# EAGLE library part VL805 (library VIA Labs)
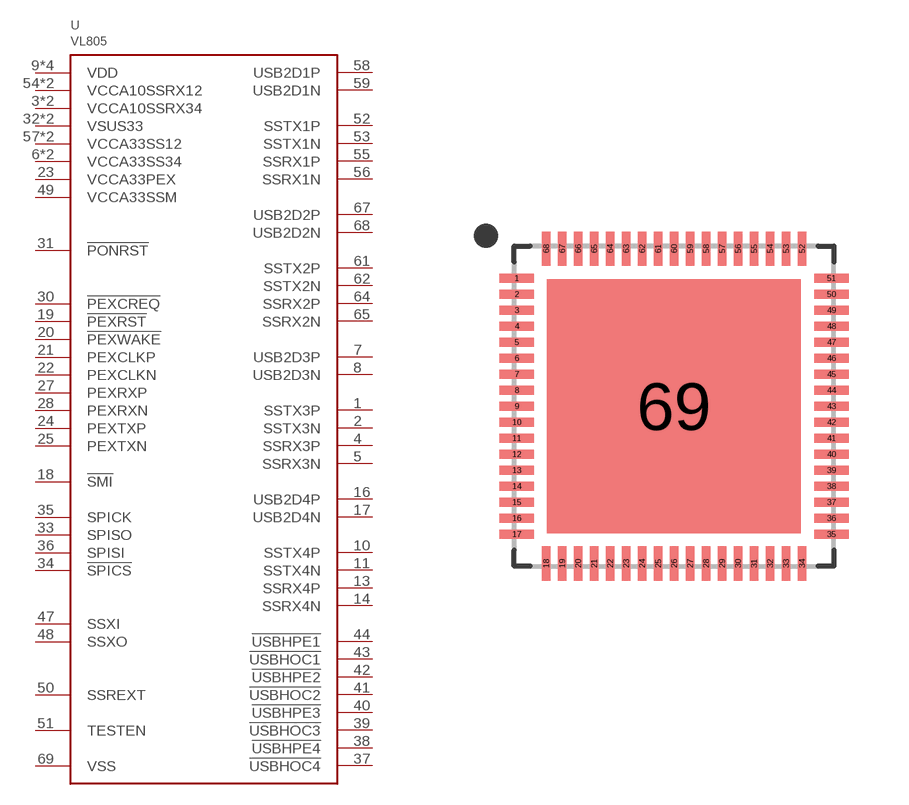
[diagram p0: symbol with the pads of QFN68; footprint QFN68]

Designator prefix U

## VL805  [QFN68]
1  SSTX3P
2  SSTX3N
3  VCCA10SSRX34  pwr
4  SSRX3P
5  SSRX3N
6  VCCA33SS34  pwr
7  USB2D3P
8  USB2D3N
9  VDD  pwr
10  SSTX4P
11  SSTX4N
12  VCCA10SSRX34  pwr
13  SSRX4P
14  SSRX4N
15  VCCA33SS34  pwr
16  USB2D4P
17  USB2D4N
18  !SMI
19  !PEXRST
20  !PEXWAKE
21  PEXCLKP
22  PEXCLKN
23  VCCA33PEX  pwr
24  PEXTXP
25  PEXTXN
27  PEXRXP
28  PEXRXN
29  VDD  pwr
30  !PEXCREQ
31  !PONRST
32  VSUS33  pwr
33  SPISO
34  !SPICS
35  SPICK
36  SPISI
37  !USBHOC4
38  !USBHPE4
39  !USBHOC3
40  !USBHPE3
41  !USBHOC2
42  !USBHPE2
43  !USBHOC1
44  !USBHPE1
45  VDD  pwr
46  VSUS33  pwr
47  SSXI
48  SSXO
49  VCCA33SSM  pwr
50  SSREXT
51  TESTEN
52  SSTX1P
53  SSTX1N
54  VCCA10SSRX12  pwr
55  SSRX1P
56  SSRX1N
57  VCCA33SS12  pwr
58  USB2D1P
59  USB2D1N
60  VDD  pwr
61  SSTX2P
62  SSTX2N
63  VCCA10SSRX12  pwr
64  SSRX2P
65  SSRX2N
66  VCCA33SS12  pwr
67  USB2D2P
68  USB2D2N
69  VSS  pwr

## Footprint QFN68 (pad centres in mm)
smd 0.86 x 0.22: 1 -3.935,3.2; 2 -3.935,2.8; 3 -3.935,2.4; 4 -3.935,2; 5 -3.935,1.6; 6 -3.935,1.2; 7 -3.935,0.8; 8 -3.935,0.4; 9 -3.935,0; 10 -3.935,-0.4; 11 -3.935,-0.8; 12 -3.935,-1.2; 13 -3.935,-1.6; 14 -3.935,-2; 15 -3.935,-2.4; 16 -3.935,-2.8; 17 -3.935,-3.2; 35 3.935,-3.2; 36 3.935,-2.8; 37 3.935,-2.4; 38 3.935,-2; 39 3.935,-1.6; 40 3.935,-1.2; 41 3.935,-0.8; 42 3.935,-0.4; 43 3.935,0; 44 3.935,0.4; 45 3.935,0.8; 46 3.935,1.2; 47 3.935,1.6; 48 3.935,2; 49 3.935,2.4; 50 3.935,2.8; 51 3.935,3.2
smd 0.22 x 0.86: 18 -3.2,-3.935; 19 -2.8,-3.935; 20 -2.4,-3.935; 21 -2,-3.935; 22 -1.6,-3.935; 23 -1.2,-3.935; 24 -0.8,-3.935; 25 -0.4,-3.935; 26 0,-3.935; 27 0.4,-3.935; 28 0.8,-3.935; 29 1.2,-3.935; 30 1.6,-3.935; 31 2,-3.935; 32 2.4,-3.935; 33 2.8,-3.935; 34 3.2,-3.935; 52 3.2,3.935; 53 2.8,3.935; 54 2.4,3.935; 55 2,3.935; 56 1.6,3.935; 57 1.2,3.935; 58 0.8,3.935; 59 0.4,3.935; 60 0,3.935; 61 -0.4,3.935; 62 -0.8,3.935; 63 -1.2,3.935; 64 -1.6,3.935; 65 -2,3.935; 66 -2.4,3.935; 67 -2.8,3.935; 68 -3.2,3.935
smd 6.35 x 6.35: 69 0,0